# Altium schematic symbol library connector_1pin.SchLib: 1 symbol
Pins are listed as number, name and electrical type; pins without a type are passive.

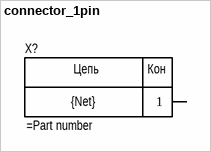
[diagram p0: symbol connector_1pin]

## connector_1pin
designator X?  Parameter 2: {Net}
pins: 1
text: Цепь; Кон